# EAGLE library part 686118148922 (library Eagle_FPC_CONNECTOR_AND_FFC_CAB (rev18c))
WR-FPC 1mm SMT Horiz. Bot. Contact Hinge type WR-FPC 1mm 18 pins Hinge type SMT Horizontal Bottom Contact ;=>Code : Con_FPC_ZIF_1.00_6861xx148922_686118148922 <http://katalog.we-online.de/media/images/eican/Con_FPC_ZIF_1.00_686110148922_pf2.jpg> Details see: http://katalog.we-online.de/em/datasheet/6861xx148922.pdf Created 2014-10-08, Karrer Zheng 2014 (C) Wurth Elektronik
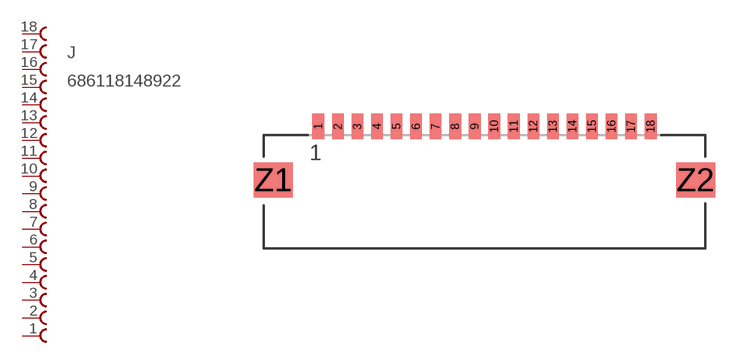
[diagram p97: symbol with the pads of 686118148922; footprint 686118148922]

Designator prefix J

## 686118148922  [686118148922]
1  18  pas
2  17  pas
3  16  pas
4  15  pas
5  14  pas
6  13  pas
7  12  pas
8  11  pas
9  10  pas
10  9  pas
11  8  pas
12  7  pas
13  6  pas
14  5  pas
15  4  pas
16  3  pas
17  2  pas
18  1  pas

## Footprint 686118148922 (pad centres in mm)
WR-FPC 1mm SMT Horiz. Bot. Contact Hinge type WR-FPC 1mm 18pins Hinge type SMT Horizontal Bottom Contact
smd 0.6 x 1.3: 1 -8.5,2.75; 2 -7.5,2.75; 3 -6.5,2.75; 4 -5.5,2.75; 5 -4.5,2.75; 6 -3.5,2.75; 7 -2.5,2.75; 8 -1.5,2.75; 9 -0.5,2.75; 10 0.5,2.75; 11 1.5,2.75; 12 2.5,2.75; 13 3.5,2.75; 14 4.5,2.75; 15 5.5,2.75; 16 6.5,2.75; 17 7.5,2.75; 18 8.5,2.75
smd 2 x 1.8: Z1 -10.8,0; Z2 10.8,0